# EAGLE library part MODULARBUCHSE (library mylib)
asdf
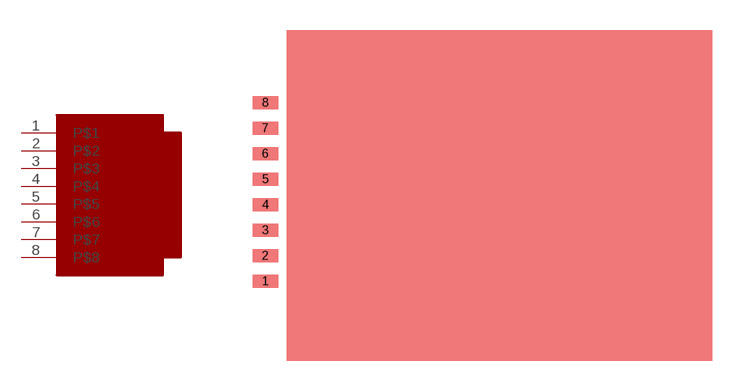
[diagram p0: symbol with the pads of MODULARBUCHSESMD; footprint MODULARBUCHSESMD]

Designator prefix -

## MODULARBUCHSE  [MODULARBUCHSESMD]
1  P$1
2  P$2
3  P$3
4  P$4
5  P$5
6  P$6
7  P$7
8  P$8

## Footprint MODULARBUCHSESMD (pad centres in mm)
smd 1.27 x 0.635: 1 0,-8.89; 2 0,-7.62; 3 0,-6.35; 4 0,-5.08; 5 0,-3.81; 6 0,-2.54; 7 0,-1.27; 8 0,0